# Altium footprint library HD_EMG_Circuit.PcbLib: 30 footprints (part 1 of 2)
Each footprint in its own frame and in the unit in brackets; x right, y up, seen from the top. Pads: shape width x height; smd on the part's side, far side on the other; paste and mask are expansions set on the pad; w line width, h text height; cw(c..) or ccw(c..) is an arc to the next point about the centre after c.
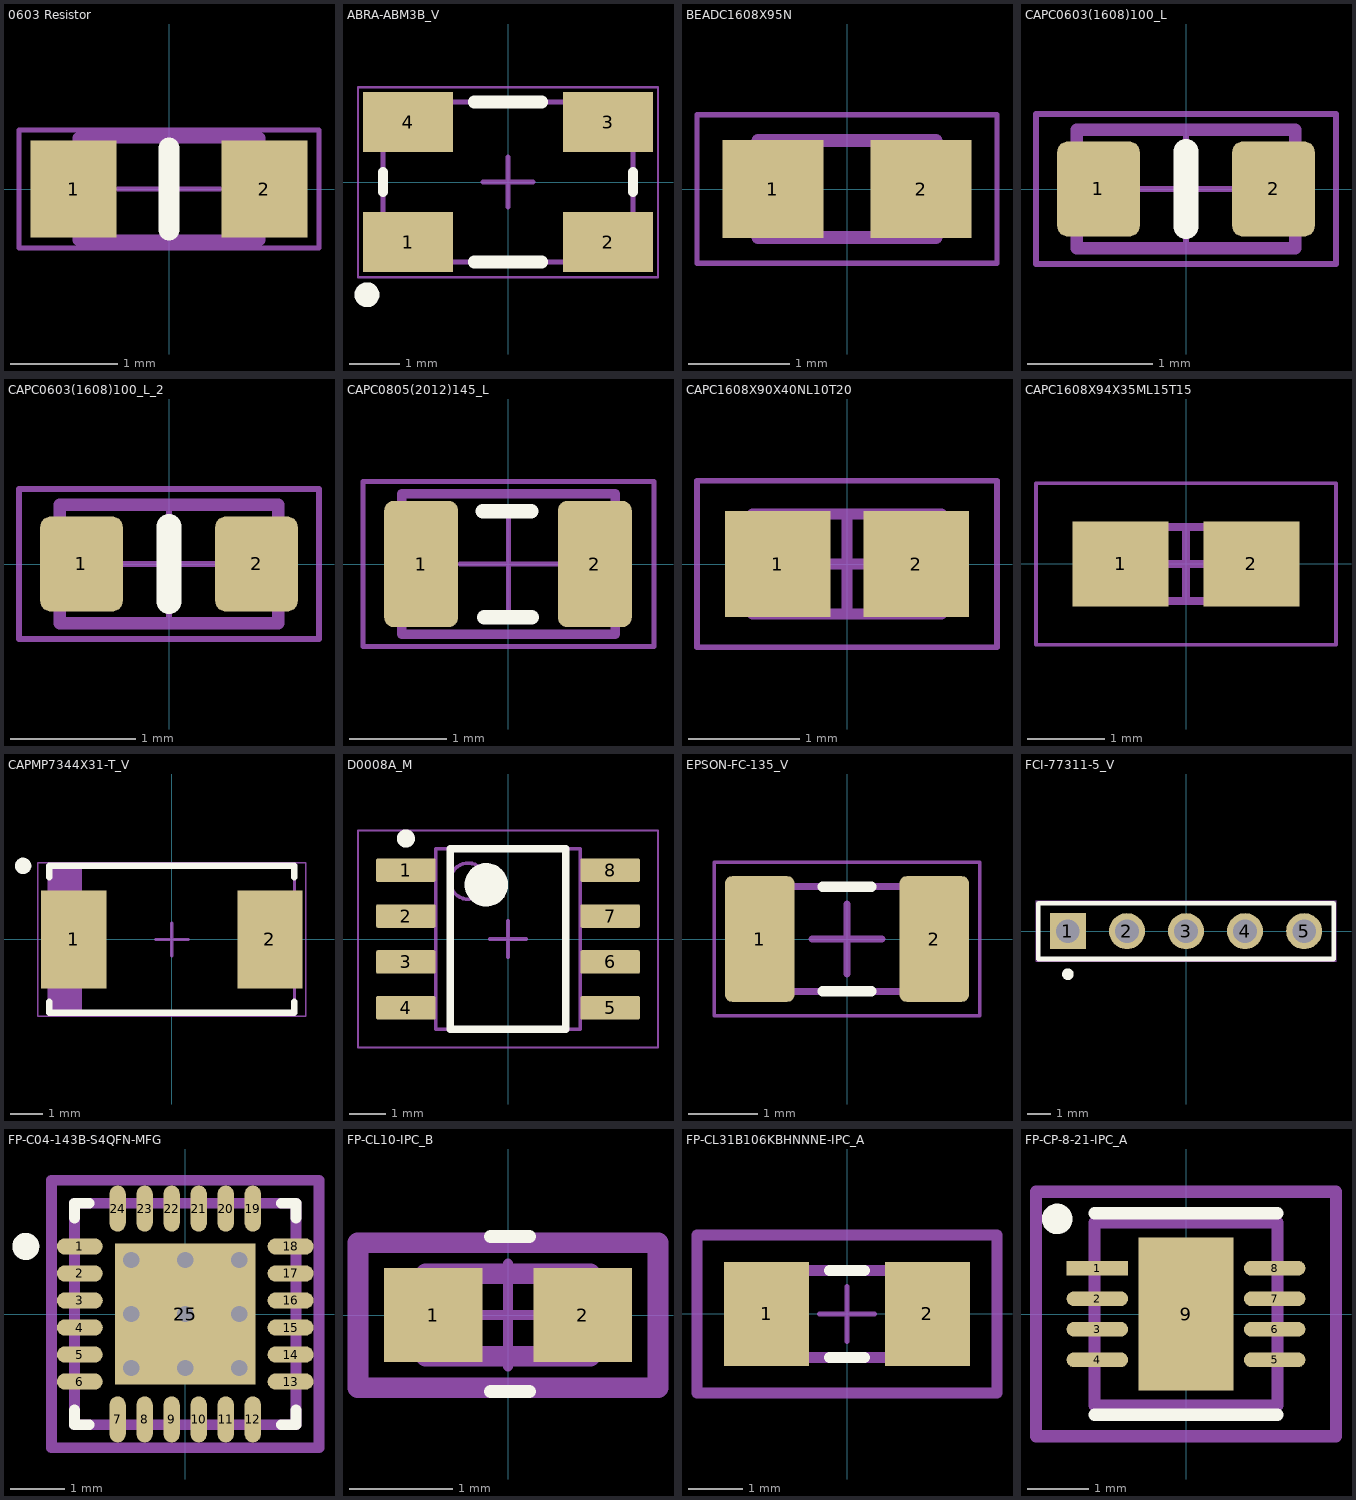
[diagram p0: the footprints below, top view; thin cyan lines are the x and y axes]

## 0603 Resistor [mm]
pads (2):
  rect 0.8x0.9 smd: 1(-0.889,0) 2(0.889,0)
Top Overlay:
  lines w0.2: 0,-0.381 0,0.381
Mechanical 13:
  lines w0.1: -0.85,-0.475 -0.85,0.475 0.85,0.475 0.85,-0.475 -0.85,-0.475
Mechanical 15:
  lines w0.05: -0.475,0 0.475,0 ; 0,-0.475 0,0.475 ; -1.397,-0.55 -1.397,0.55 1.397,0.55 1.397,-0.55 -1.397,-0.55
3D body "0603 SMD resistor.step": height 0.41, standoff 0.01, extent -0.8,-0.4 0.8,0.4

## ABRA-ABM3B_V [mm]
pads (4):
  rect 1.8x1.2 smd: 1(-2,-1.2) 2(2,-1.2) 3(2,1.2) 4(-2,1.2)
Top Overlay:
  circle w0.25: c-2.819,-2.255 r0.125
  lines w0.2: -2.5,-0.2 -2.5,0.2 ; 2.5,-0.2 2.5,0.2
  lines w0.254: -0.673,-1.6 0.673,-1.6 ; -0.673,1.6 0.673,1.6
Mechanical 13:
  lines w0.1: -2.5,-1.6 -2.5,1.6 2.5,1.6 2.5,-1.6 -2.5,-1.6
Mechanical 15:
  lines w0.05: -3,-1.9 3,-1.9 3,1.9 -3,1.9 -3,-1.9
  lines w0.1: -0.5,0 0.5,0 ; 0,-0.5 0,0.5
3D body "ABM3B.STEP": height 1.13, standoff 0.01, extent -2.5,-1.587 2.5,1.588

## BEADC1608X95N [mm]
pads (2):
  rect 1x0.97 smd: 1(-0.735,0) 2(0.735,0)
Mechanical 13:
  lines w0.127: -0.88,-0.48 -0.88,0.48 0.88,0.48 0.88,-0.48 -0.88,-0.48
Mechanical 15:
  lines w0.05: -1.485,-0.735 -1.485,0.735 1.485,0.735 1.485,-0.735 -1.485,-0.735
3D body "step_temp.STEP": height 0.95, standoff 0, extent -0.8,-0.4 0.8,0.4

## CAPC0603(1608)100_L [mm]
pads (2):
  rrect25% 0.66x0.76 smd: 1(-0.7,0) 2(0.7,0)
Top Overlay:
  lines w0.2: 0,-0.3 0,0.3
Top Courtyard:
  lines w0.05: -0.475,0 0.475,0 ; 0,-0.475 0,0.475 ; -1.2,-0.6 1.2,-0.6 1.2,0.6 -1.2,0.6 -1.2,-0.6
Top Assembly:
  lines w0.1: -0.875,-0.475 -0.875,0.475 0.875,0.475 0.875,-0.475 -0.875,-0.475
Top Designator:
  text ".Designator" at -1.27,-0.127 h0.6
3D body "CAPC1608X95N EIA 0603.STEP": height 0.95, standoff 0, extent -0.8,-0.4 0.8,0.4

## CAPC0603(1608)100_L_2 [mm]
pads (2):
  rrect25% 0.66x0.76 smd: 1(-0.7,0) 2(0.7,0)
Top Overlay:
  lines w0.2: 0,-0.3 0,0.3
Top Courtyard:
  lines w0.05: -0.475,0 0.475,0 ; 0,-0.475 0,0.475 ; -1.2,-0.6 1.2,-0.6 1.2,0.6 -1.2,0.6 -1.2,-0.6
Top Assembly:
  lines w0.1: -0.875,-0.475 -0.875,0.475 0.875,0.475 0.875,-0.475 -0.875,-0.475
Top Designator:
  text ".Designator" at -1.27,-0.127 h0.6
3D body "CAPC1608X95N EIA 0603.STEP": height 0.95, standoff 0, extent -0.8,-0.4 0.8,0.4

## CAPC0805(2012)145_L [mm]
pads (2):
  rrect25% 0.76x1.3 smd: 1(-0.9,0) 2(0.89,0)
Top Overlay:
  lines w0.15: -0.264,0.544 0.233,0.544 ; -0.248,-0.548 0.239,-0.548
Top Courtyard:
  lines w0.05: -0.5,0 0.5,0 ; 0,-0.5 0,0.5 ; -1.5,-0.85 -1.5,0.85 1.5,0.85 1.5,-0.85 -1.5,-0.85
Top Assembly:
  lines w0.1: -1.1,-0.725 1.1,-0.725 1.1,0.725 -1.1,0.725 -1.1,-0.725
Top Designator:
  text ".Designator" at -1.27,-0.127 h0.6
3D body "CAPC2012X145N EIA 0805.STEP": height 1.45, standoff 0, extent -1,-0.6 1,0.6

## CAPC1608X90X40NL10T20 [mm]
pads (2):
  rect 0.95x0.95 smd: 1(-0.625,0) 2(0.625,0)
Mechanical 13:
  lines w0.1: -0.85,-0.45 0.85,-0.45 0.85,0.45 -0.85,0.45 -0.85,-0.45
Mechanical 15:
  lines w0.05: -1.35,-0.75 1.35,-0.75 1.35,0.75 -1.35,0.75 -1.35,-0.75
  lines w0.1: -0.45,0 0.45,0 ; 0,-0.45 0,0.45
3D body "CAPC1608X09N.step": height 0.9, standoff 0, extent -0.85,-0.45 0.85,0.45

## CAPC1608X94X35ML15T15 [mm]
pads (2):
  rect 1.25x1.1 smd: 1(-0.85,0) 2(0.85,0)
Mechanical 13:
  lines w0.1: -0.875,-0.48 -0.875,0.48 0.875,0.48 0.875,-0.48 -0.875,-0.48
Mechanical 15:
  lines w0.05: -1.95,-1.05 -1.95,1.05 1.95,1.05 1.95,-1.05 -1.95,-1.05
  lines w0.1: -0.48,0 0.48,0 ; 0,-0.48 0,0.48
3D body "CAPC1608X09M.step": height 0.94, standoff 0, extent -0.875,-0.48 0.875,0.48

## CAPMP7344X31-T_V [mm]
pads (2):
  rect 2x3 smd: 1(-3,0) 2(3,0)
Top Overlay:
  circle w0.25: c-4.55,2.25 r0.125
  lines w0.2: -3.75,-1.9 -3.75,-2.25 3.75,-2.25 3.75,-1.9 ; -3.75,1.9 -3.75,2.25 3.75,2.25 3.75,1.9
Mechanical 13:
  region: -2.741,2.25 -3.75,2.25 -3.75,-2.25 -2.741,-2.25
  lines w0.1: -3.75,-2.25 3.75,-2.25 3.75,2.25 -3.75,2.25 -3.75,-2.25
Mechanical 15:
  lines w0.05: -4.1,-2.35 4.1,-2.35 4.1,2.35 -4.1,2.35 -4.1,-2.35
  lines w0.1: -0.5,0 0.5,0 ; 0,-0.5 0,0.5
3D body "CAPMP7344X31L.step": height 3.1, standoff 0, extent -3.97,-2.25 3.97,2.25

## D0008A_M [mm]
pads (8):
  rrect15% 1.65x0.65 smd: 1(-2.825,1.905) 2(-2.825,0.635) 3(-2.825,-0.635) 4(-2.825,-1.905) 5(2.825,-1.905) 6(2.825,-0.635) 7(2.825,0.635) 8(2.825,1.905)
Top Overlay:
  circle w0.6: c-0.6,1.5 r0.3
  circle w0.25: c-2.825,2.78 r0.125
  lines w0.2: -1.6,-2.5 1.6,-2.5 1.6,2.5 -1.6,2.5 -1.6,-2.5
Mechanical 1:
  text ".Designator" at -1.397,-0.254 h0.6
Mechanical 13:
  circle w0.1: c-1.1,1.6 r0.5
  lines w0.1: -2,-2.5 2,-2.5 2,2.5 -2,2.5 -2,-2.5
Mechanical 15:
  lines w0.05: -4.15,-3 4.15,-3 4.15,3 -4.15,3 -4.15,-3
  lines w0.1: -0.5,0 0.5,0 ; 0,-0.5 0,0.5
3D body "SOIC-8akaD0008AakaM08A.stp": height 1.63, standoff 0, extent -3,-2.45 3,2.45

## EPSON-FC-135_V [mm]
pads (2):
  rrect20% 1x1.8 smd: 1(-1.25,0) 2(1.25,0)
Top Overlay:
  lines w0.15: -0.35,-0.75 0.35,-0.75 ; -0.35,0.75 0.35,0.75
Top Courtyard:
  lines w0.05: -1.9,-1.1 -1.9,1.1 1.9,1.1 1.9,-1.1 -1.9,-1.1
  lines w0.1: -0.5,0 0.5,0 ; 0,-0.5 0,0.5
Top Assembly:
  lines w0.1: -1.6,-0.75 1.6,-0.75 1.6,0.75 -1.6,0.75 -1.6,-0.75
Top Designator:
  text ".Designator" at -1.27,-0.127 h0.6
3D body: height 0.9, standoff 0, extent -1.45,-0.75 1.45,0.75
3D body: height 0.7, standoff 0, extent -1.6,-0.75 1.6,0.75

## FCI-77311-5_V [mm]
pads (5):
  rect 1.55x1.55 hole 1.02: 1(-5.08,0)
  round 1.55 hole 1.02: 2(-2.54,0) 3(0,0) 4(2.54,0) 5(5.08,0)
Top Overlay:
  circle w0.25: c-5.08,-1.85 r0.125
  lines w0.2: -6.35,-1.2 -6.35,1.2 6.35,1.2 6.35,-1.2 -6.35,-1.2
Mechanical 13:
  lines w0.1: -6.35,-1.2 6.35,-1.2 6.35,1.2 -6.35,1.2 -6.35,-1.2
Mechanical 15:
  lines w0.05: -6.45,-1.3 -6.45,1.3 6.45,1.3 6.45,-1.3 -6.45,-1.3
  lines w0.1: -0.5,0 0.5,0 ; 0,-0.5 0,0.5
3D body: height 16.24, standoff -3.05, extent 4.77,-0.31 5.39,0.31
3D body: height 16.24, standoff -3.05, extent 2.23,-0.31 2.85,0.31
3D body: height 16.24, standoff -3.05, extent -5.39,-0.31 -4.77,0.31
3D body: height 16.24, standoff -3.05, extent -2.85,-0.31 -2.23,0.31
3D body: height 16.24, standoff -3.05, extent -0.31,-0.31 0.31,0.31
3D body: height 2.54, standoff 0, extent -6.35,-1.2 6.35,1.2

## FP-C04-143B-S4QFN-MFG [mm]
pads (25):
  rrect100% 0.85x0.3 smd paste+0 mask+0: 1(-1.95,1.25) 2(-1.95,0.75) 3(-1.95,0.25) 4(-1.95,-0.25) 5(-1.95,-0.75) 6(-1.95,-1.25) 13(1.95,-1.25) 14(1.95,-0.75) 15(1.95,-0.25) 16(1.95,0.25) 17(1.95,0.75) 18(1.95,1.25)
  rrect100% 0.3x0.85 smd paste+0 mask+0: 7(-1.25,-1.95) 8(-0.75,-1.95) 9(-0.25,-1.95) 10(0.25,-1.95) 11(0.75,-1.95) 12(1.25,-1.95) 19(1.25,1.95) 20(0.75,1.95) 21(0.25,1.95) 22(-0.25,1.95) 23(-0.75,1.95) 24(-1.25,1.95)
  rect 2.6x2.6 smd paste+0 mask+0: 25(0,0)
via -1,1 diameter 0.6 hole 0.3
via 0,1 diameter 0.6 hole 0.3
via 1,1 diameter 0.6 hole 0.3
via -1,0 diameter 0.6 hole 0.3
via 0,0 diameter 0.6 hole 0.3
via 1,0 diameter 0.6 hole 0.3
via -1,-1 diameter 0.6 hole 0.3
via 0,-1 diameter 0.6 hole 0.3
via 1,-1 diameter 0.6 hole 0.3
Top Overlay:
  circle w0.25: c-2.95,1.25 r0.125
  lines w0.2: -2.05,-1.775 -2.05,-2.05 -1.775,-2.05 ; -2.05,1.775 -2.05,2.05 -1.775,2.05 ; 1.775,-2.05 2.05,-2.05 2.05,-1.775 ; 1.775,2.05 2.05,2.05 2.05,1.775
Top 3D Body:
  lines w0.2: -2.05,-2.05 2.05,-2.05 2.05,2.05 -2.05,2.05 -2.05,-2.05
Top Courtyard:
  lines w0.2: -2.475,-2.475 2.475,-2.475 2.475,2.475 -2.475,2.475 -2.475,-2.475
Top Assembly:
  lines w0.2: -2.475,-2.475 2.475,-2.475 2.475,2.475 -2.475,2.475 -2.475,-2.475
  text ".Designator" at 0,0.188 h1
Top Component Center:
  lines w0.1: -0.5,0 0.5,0 ; 0,-0.5 0,0.5
3D body "IC_Microchip_LAN8742A-CZ-TR_eec.STEP": height 0.25, standoff 0, extent -2.475,-2.475 2.475,2.475

## FP-CL10-IPC_B [mm]
pads (2):
  rect 0.958x0.912 smd: 1(-0.727,0) 2(0.727,0)
Top Overlay:
  lines w0.127: -0.171,-0.741 0.209,-0.741 ; -0.171,0.762 0.209,0.762
Top 3D Body:
  lines w0.2: -0.8,-0.4 -0.8,0.4 0.8,0.4 0.8,-0.4 -0.8,-0.4
Top Courtyard:
  lines w0.2: -1.456,-0.706 -1.456,0.701 1.456,0.701 1.456,-0.706 -1.456,-0.706
Top Assembly:
  lines w0.2: -1.456,-0.706 -1.456,0.701 1.456,0.701 1.456,-0.706 -1.456,-0.706
  text ".Designator" at 0,0.188 h1
Top Component Center:
  lines w0.1: -0.5,0 0.5,0 ; 0,-0.5 0,0.5
3D body "Cap_Samsung_CL10B473KO8NNWC_eec.STEP": height 0.25, standoff 0, extent -1.456,-0.706 1.456,0.706

## FP-CL31B106KBHNNNE-IPC_A [mm]
pads (2):
  rect 1.554x1.906 smd paste+0 mask+0: 1(-1.476,0) 2(1.476,0)
Top Overlay:
  lines w0.2: -0.324,-0.8 0.324,-0.8 ; -0.324,0.8 0.324,0.8
Top 3D Body:
  lines w0.2: -1.6,-0.8 1.6,-0.8 1.6,0.8 -1.6,0.8 -1.6,-0.8
Top Courtyard:
  lines w0.2: -2.753,-1.453 2.753,-1.453 2.753,1.453 -2.753,1.453 -2.753,-1.453
Top Assembly:
  lines w0.2: -2.753,-1.453 2.753,-1.453 2.753,1.453 -2.753,1.453 -2.753,-1.453
  text ".Designator" at 0,0.188 h1
Top Component Center:
  lines w0.1: -0.5,0 0.5,0 ; 0,-0.5 0,0.5
3D body "Cap_Samsung_CL31B106KBHNNNE_eec.STEP": height 1.8, standoff 0, extent -1.6,-0.8 1.6,0.8

## FP-CP-8-21-IPC_A [mm]
pads (9):
  rect 1.01x0.242 smd paste+0 mask+0: 1(-1.451,0.75)
  rrect100% 1.01x0.242 smd paste+0 mask+0: 2(-1.451,0.25) 3(-1.451,-0.25) 4(-1.451,-0.75) 5(1.451,-0.75) 6(1.451,-0.25) 7(1.451,0.25) 8(1.451,0.75)
  rect 1.55x2.5 smd paste-1000 mask+0: 9(0,0)
Top Overlay:
  circle w0.25: c-2.109,1.556 r0.125
  lines w0.2: -1.5,-1.65 1.5,-1.65 ; -1.5,1.65 1.5,1.65
Top Paste:
  rectangle: -0.48,-0.9 0.48,0.9
Top 3D Body:
  lines w0.2: -1.5,-1.5 -1.5,1.5 1.5,1.5 1.5,-1.5 -1.5,-1.5
Top Courtyard:
  lines w0.2: -2.456,-2 -2.456,2 2.456,2 2.456,-2 -2.456,-2
Top Assembly:
  lines w0.2: -2.456,-2 -2.456,2 2.456,2 2.456,-2 -2.456,-2
  text ".Designator" at 0,0 h1
Top Component Center:
  lines w0.1: -0.5,0 0.5,0 ; 0,-0.5 0,0.5
3D body "IC_Analog_Devices_ADM7170ACPZ-3_3-R7_eec.STEP": height 0.25, standoff 0, extent -2.456,-2 2.456,2